# EAGLE library part POS (library NRAO-MiniCkts)
Mini-Circuits POS series VCO
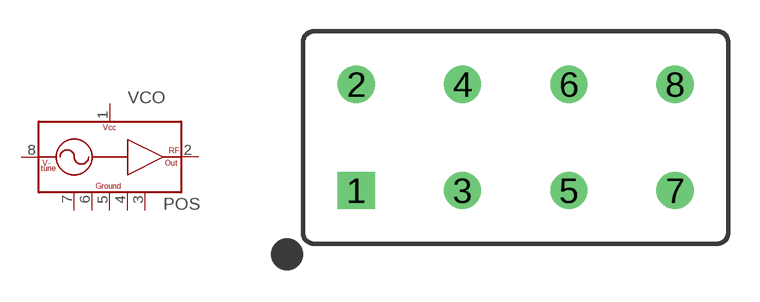
[diagram p1: symbol with the pads of A06; footprint A06]

Designator prefix VCO

## POS  [A06]
1  VCC  pas
2  RF-OUT  pas
3  GND  pas
4  GND  pas
5  GND  pas
6  GND  pas
7  GND  pas
8  V-TUNE  pas

## Footprint A06 (pad centres in mm)
Mini-Circuits A06 Package
drill 0.889 pad 1.778 square: 1 -7.62,-2.54
drill 0.889 pad 1.778 round: 2 -7.62,2.54; 3 -2.54,-2.54; 4 -2.54,2.54; 5 2.54,-2.54; 6 2.54,2.54; 7 7.62,-2.54; 8 7.62,2.54